# Altium footprint library Relay.PcbLib: 3 footprints
Each footprint in its own frame and in the unit in brackets; x right, y up, seen from the top. Pads: shape width x height; smd on the part's side, far side on the other; paste and mask are expansions set on the pad; w line width, h text height; cw(c..) or ccw(c..) is an arc to the next point about the centre after c.
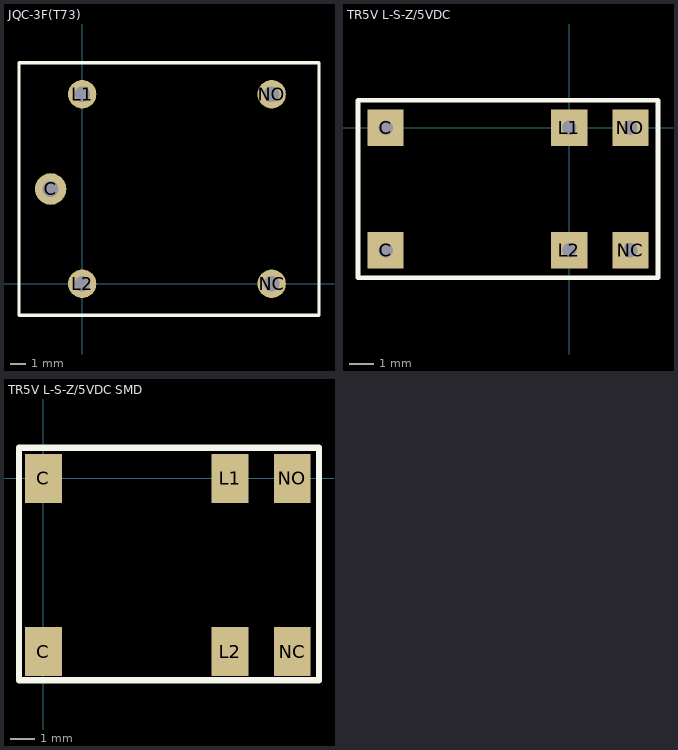
[diagram p0: the footprints below, top view; thin cyan lines are the x and y axes]

## JQC-3F(T73) [mm]
pads (5):
  round 2 hole 1: C(-2,6)
  round 1.8 hole 1: L1(0,12) L2(0,0) NC(12,0) NO(12,12)
Top Overlay:
  lines w0.2: -4,-2 15,-2 15,14 -4,14 -4,-2

## TR5V L-S-Z/5VDC [mm]
pads (6):
  rect 1.5x1.5 hole 0.6: C(-7.62,-5.08) C(-7.62,0) L1(0,0) L2(0,-5.08) NC(2.54,-5.08) NO(2.54,0)
Top Overlay:
  lines w0.2: -8.763,-6.223 -8.763,1.143 3.683,1.143 3.683,-6.223 -8.763,-6.223
3D body "Relay G5V-1.step": height 10, standoff -3, extent -8.8,-6.275 3.7,1.225

## TR5V L-S-Z/5VDC SMD [mm]
pads (6):
  rect 1.5x2 smd: C(0,-7.08) C(0,0) L1(7.62,0) L2(7.62,-7.08) NC(10.16,-7.08) NO(10.16,0)
Top Overlay:
  lines w0.254: -1,-8.25 11.25,-8.25 11.25,1.25 -1,1.25 -1,-8.25
3D body "Relay G5V-1.step": height 13, standoff 0, extent -1.15,-7.2 11.35,0.3